# Altium footprint library BSS84.PcbLib: 4 footprints
Each footprint in its own frame and in the unit in brackets; x right, y up, seen from the top. Pads: shape width x height; smd on the part's side, far side on the other; paste and mask are expansions set on the pad; w line width, h text height; cw(c..) or ccw(c..) is an arc to the next point about the centre after c.
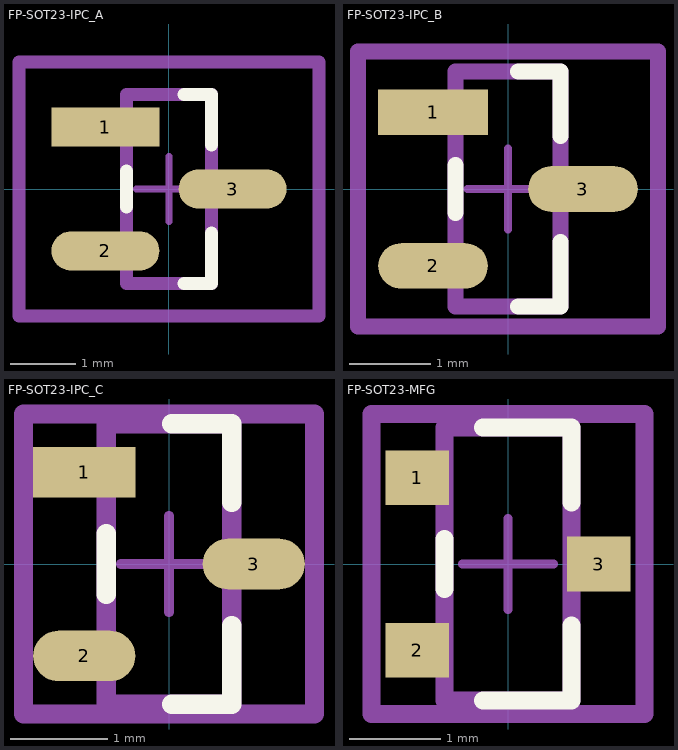
[diagram p0: the footprints below, top view; thin cyan lines are the x and y axes]

## FP-SOT23-IPC_A [mm]
pads (3):
  rect 1.655x0.602 smd paste+0 mask+0: 1(-0.975,0.95)
  rrect100% 1.655x0.602 smd paste+0 mask+0: 2(-0.975,-0.95) 3(0.975,0)
Top Overlay:
  lines w0.2: -0.65,-0.274 -0.65,0.274 ; 0.227,-1.45 0.65,-1.45 0.65,-0.676 ; 0.227,1.45 0.65,1.45 0.65,0.676
Top Assembly:
  lines w0.2: -2.303,-1.95 2.303,-1.95 2.303,1.95 -2.303,1.95 -2.303,-1.95
  text ".Designator" at 0,-0.001 h1
Top 3D Body:
  lines w0.2: -0.65,-1.45 0.65,-1.45 0.65,1.45 -0.65,1.45 -0.65,-1.45
Top Courtyard:
  lines w0.2: -2.303,-1.95 2.303,-1.95 2.303,1.95 -2.303,1.95 -2.303,-1.95
Top Component Center:
  lines w0.1: -0.5,0 0.5,0 ; 0,-0.5 0,0.5
3D body "Trans_Nexperia_USA_Inc_BSS84_215_eec.STEP": height 0.25, standoff 0, extent -2.303,-1.95 2.303,1.95

## FP-SOT23-IPC_B [mm]
pads (3):
  rect 1.355x0.562 smd paste+0 mask+0: 1(-0.925,0.95)
  rrect100% 1.355x0.562 smd paste+0 mask+0: 2(-0.925,-0.95) 3(0.925,0)
Top Overlay:
  lines w0.2: -0.65,-0.294 -0.65,0.294 ; 0.127,-1.45 0.65,-1.45 0.65,-0.656 ; 0.127,1.45 0.65,1.45 0.65,0.656
Top Assembly:
  lines w0.2: -1.853,-1.7 1.853,-1.7 1.853,1.7 -1.853,1.7 -1.853,-1.7
  text ".Designator" at 0,-0.001 h1
Top 3D Body:
  lines w0.2: -0.65,-1.45 0.65,-1.45 0.65,1.45 -0.65,1.45 -0.65,-1.45
Top Courtyard:
  lines w0.2: -1.853,-1.7 1.853,-1.7 1.853,1.7 -1.853,1.7 -1.853,-1.7
Top Component Center:
  lines w0.1: -0.5,0 0.5,0 ; 0,-0.5 0,0.5
3D body "Trans_Nexperia_USA_Inc_BSS84_215_eec.STEP": height 0.25, standoff 0, extent -1.853,-1.7 1.853,1.7

## FP-SOT23-IPC_C [mm]
pads (3):
  rect 1.055x0.522 smd paste+0 mask+0: 1(-0.875,0.95)
  rrect100% 1.055x0.522 smd paste+0 mask+0: 2(-0.875,-0.95) 3(0.875,0)
Top Overlay:
  lines w0.2: -0.65,-0.314 -0.65,0.314 ; 0.027,-1.45 0.65,-1.45 0.65,-0.636 ; 0.027,1.45 0.65,1.45 0.65,0.636
Top Assembly:
  lines w0.2: -1.503,-1.55 1.503,-1.55 1.503,1.55 -1.503,1.55 -1.503,-1.55
  text ".Designator" at 0,-0.001 h1
Top 3D Body:
  lines w0.2: -0.65,-1.45 0.65,-1.45 0.65,1.45 -0.65,1.45 -0.65,-1.45
Top Courtyard:
  lines w0.2: -1.503,-1.55 1.503,-1.55 1.503,1.55 -1.503,1.55 -1.503,-1.55
Top Component Center:
  lines w0.1: -0.5,0 0.5,0 ; 0,-0.5 0,0.5
3D body "Trans_Nexperia_USA_Inc_BSS84_215_eec.STEP": height 0.25, standoff 0, extent -1.503,-1.55 1.503,1.55

## FP-SOT23-MFG [mm]
pads (3):
  rect 0.7x0.6 smd paste-1000 mask+0: 1(-1,0.95) 2(-1,-0.95) 3(1,0)
Top Overlay:
  lines w0.2: -0.7,-0.275 -0.7,0.275 ; -0.275,-1.5 0.7,-1.5 0.7,-0.675 ; -0.275,1.5 0.7,1.5 0.7,0.675
Top Paste:
  rectangle: -1.3,0.7 -0.7,1.2
  rectangle: -1.3,-1.2 -0.7,-0.7
  rectangle: 0.7,-0.25 1.3,0.25
Top Assembly:
  lines w0.2: -1.5,-1.65 1.5,-1.65 1.5,1.65 -1.5,1.65 -1.5,-1.65
  text ".Designator" at 0,0.188 h1
Top 3D Body:
  lines w0.2: -0.7,-1.5 0.7,-1.5 0.7,1.5 -0.7,1.5 -0.7,-1.5
Top Courtyard:
  lines w0.2: -1.5,-1.65 1.5,-1.65 1.5,1.65 -1.5,1.65 -1.5,-1.65
Top Component Center:
  lines w0.1: -0.5,0 0.5,0 ; 0,-0.5 0,0.5
3D body "Trans_Nexperia_USA_Inc_BSS84_215_eec.STEP": height 0.25, standoff 0, extent -1.5,-1.65 1.5,1.65